# Altium schematic symbol library FA-128_32.0000MF10Z-AJ5.SchLib: 1 symbol
Pins are listed as number, name and electrical type; pins without a type are passive.

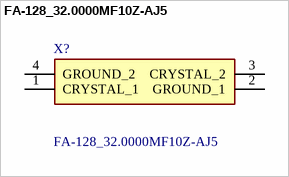
[diagram p0: symbol FA-128_32.0000MF10Z-AJ5]

## FA-128_32.0000MF10Z-AJ5
designator X?
Crystals MINI XTL MHZ +/-10PPM +/-10PPM-20~75C 8.0PF 3K TR; Manufacturer_Name: Epson Timing; Manufacturer_Part_Number: FA-128 32.0000MF10Z-AJ5; Geometry.Height: 0.5mm; Mouser Part Number: 732-FA-12832MF10ZAJ5; Mouser Price/Stock: https://www.mouser.co.uk/ProductDetail/Epson-Timing/FA-128-32.0000MF10Z-AJ5?qs=f9yNj16SXrIo2JFkAYOmQA%3D%3D; Datasheet Link: https://www.arrow.com/en/products/fa-128-32.0000mf10z-aj5/epson-electronics-america
footprint FA128320000MF10ZAJ5
pins: 1 CRYSTAL_1, 2 GROUND_1, 3 CRYSTAL_2, 4 GROUND_2